# EAGLE library part G5V-2-H1-DC5 (library G5V-2-H1-DC5)
DPDT PCB Mount Non-Latching Relay Plug In, 1 A, 5V dc Source: Datasheet <http://uk.rs-online.com/web/p/products/8074535>
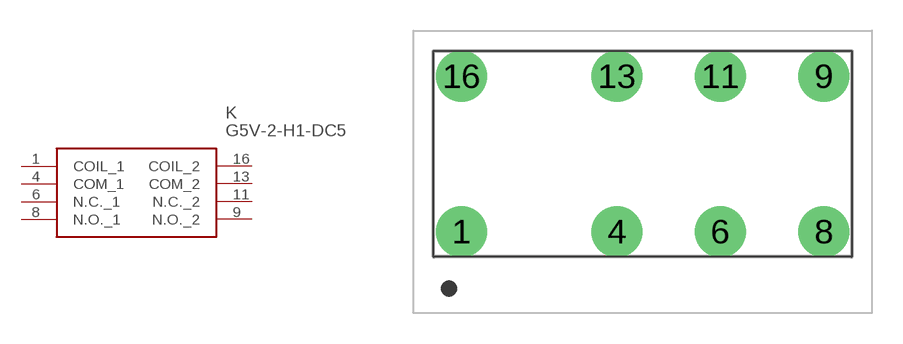
[diagram p0: symbol with the pads of G5V2H1DC5; footprint G5V2H1DC5]

Designator prefix K

## G5V-2-H1-DC5 (ARROW_PART_NUMBER: G5V-2-H1-DC5; ARROW_PRICE-STOCK: https://www.arrow.com/en/products/g5v-2-h1dc5/omron?region=nac; DESCRIPTION: DPDT PCB Mount Non-Latching Relay Plug In, 1 A, 5V dc; HEIGHT: 11.5mm; MANUFACTURER_NAME: Omron Electronics; MANUFACTURER_PART_NUMBER: G5V-2-H1-DC5; MOUSER_PART_NUMBER: 653-G5V-2-H1-DC5; MOUSER_PRICE-STOCK: https://www.mouser.co.uk/ProductDetail/Omron-Electronics/G5V-2-H1-DC5?qs=B3tblJ0Nlt9vPpFeBhhwGQ%3D%3D)  [G5V2H1DC5]
1  COIL_1
4  COM_1
6  N.C._1
8  N.O._1
9  N.O._2
11  N.C._2
13  COM_2
16  COIL_2

## Footprint G5V2H1DC5 (pad centres in mm)
G5V-2-H1-DC5-1
drill 1.1 pad 2.5: 1 0,0; 4 7.62,0; 6 12.7,0; 8 17.78,0; 9 17.78,7.62; 11 12.7,7.62; 13 7.62,7.62; 16 0,7.62